# Altium schematic symbol library Memory_NVRAM.SchLib: 19 symbols
Pins are listed as number, name and electrical type; pins without a type are passive.

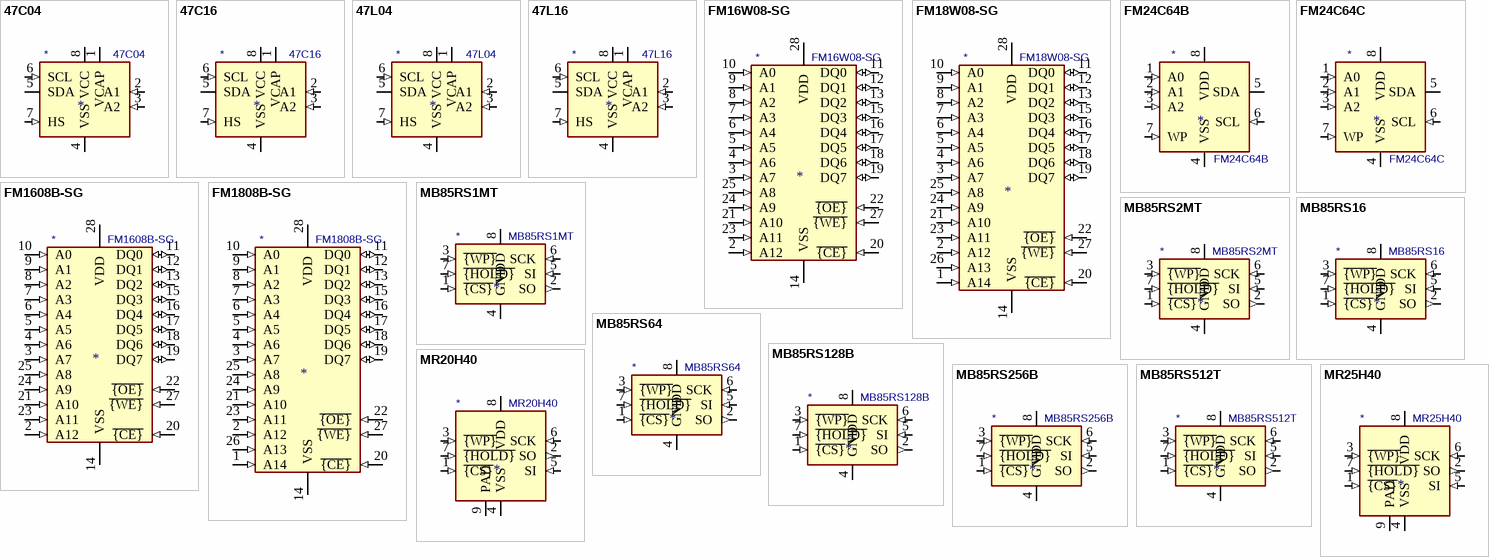
[diagram p0: symbols 47C04 to MR25H40]

## 47C04
designator *  value 47C04
ki_keywords: 4kb 5V I2C serial EERAM SRAM EEPROM; ki_description: 4kbit I2C serial EERAM, SRAM with EEPROM backup, 4.5-5.5V, DIP-8/SOIC-8/TSSOP-8; ki_fp_filters: DIP*W7.62mm* SOIC*3.9x4.9mm*P1.27mm* TSSOP*4.4x3mm*P0.65mm*; Supplier: http://ww1.microchip.com/downloads/en/DeviceDoc/20005371C.pdf
pins: 1 VCAP (power), 2 A1 (in), 3 A2 (in), 4 VSS (power), 5 SDA (io), 6 SCL (in), 7 HS (in), 8 VCC (power)

## 47C16
designator *  value 47C16
ki_keywords: 16kb 5V I2C serial EERAM SRAM EEPROM; ki_description: 16kbit I2C serial EERAM, SRAM with EEPROM backup, 4.5-5.5V, DIP-8/SOIC-8/TSSOP-8; ki_fp_filters: DIP*W7.62mm* SOIC*3.9x4.9mm*P1.27mm* TSSOP*4.4x3mm*P0.65mm*; Supplier: http://ww1.microchip.com/downloads/en/DeviceDoc/20005371C.pdf
pins: 1 VCAP (power), 2 A1 (in), 3 A2 (in), 4 VSS (power), 5 SDA (io), 6 SCL (in), 7 HS (in), 8 VCC (power)

## 47L04
designator *  value 47L04
ki_keywords: 4kb 3V I2C serial EERAM SRAM EEPROM; ki_description: 4kbit I2C serial EERAM, SRAM with EEPROM backup, 2.7-3.6V, DIP-8/SOIC-8/TSSOP-8; ki_fp_filters: DIP*W7.62mm* SOIC*3.9x4.9mm*P1.27mm* TSSOP*4.4x3mm*P0.65mm*; Supplier: http://ww1.microchip.com/downloads/en/DeviceDoc/20005371C.pdf
pins: 1 VCAP (power), 2 A1 (in), 3 A2 (in), 4 VSS (power), 5 SDA (io), 6 SCL (in), 7 HS (in), 8 VCC (power)

## 47L16
designator *  value 47L16
ki_keywords: 16kb 3V I2C serial EERAM SRAM EEPROM; ki_description: 16kbit I2C serial EERAM, SRAM with EEPROM backup, 2.7-3.6V, DIP-8/SOIC-8/TSSOP-8; ki_fp_filters: DIP*W7.62mm* SOIC*3.9x4.9mm*P1.27mm* TSSOP*4.4x3mm*P0.65mm*; Supplier: http://ww1.microchip.com/downloads/en/DeviceDoc/20005371C.pdf
pins: 1 VCAP (power), 2 A1 (in), 3 A2 (in), 4 VSS (power), 5 SDA (io), 6 SCL (in), 7 HS (in), 8 VCC (power)

## FM16W08-SG
designator *  value FM16W08-SG
ki_keywords: FRAM 5V Parallel; ki_description: 64Kb FRAM nonvolatile memory, SOIC-28; ki_fp_filters: SOIC?28*7.5x17.9mm*P1.27mm*; Footprint: Package_SO:SOIC-28W_7.5x17.9mm_P1.27mm; Supplier: http://www.cypress.com/file/41731/download
footprint SOIC-28W_7.5x17.9mm_P1.27mm
pins: 2 A12 (in), 3 A7 (in), 4 A6 (in), 5 A5 (in), 6 A4 (in), 7 A3 (in), 8 A2 (in), 9 A1 (in), 10 A0 (in), 11 DQ0 (io), 12 DQ1 (io), 13 DQ2 (io), 14 VSS (power), 15 DQ3 (io), 16 DQ4 (io), 17 DQ5 (io), 18 DQ6 (io), 19 DQ7 (io), 20 ~{{CE}} (in), 21 A10 (in), 22 ~{{OE}} (in), 23 A11 (in), 24 A9 (in), 25 A8 (in), 27 ~{{WE}} (in), 28 VDD (power)

## FM18W08-SG
designator *  value FM18W08-SG
ki_keywords: FRAM 5V Parallel; ki_description: 256k FRAM nonvolatile memory, SOIC-28; ki_fp_filters: SOIC*7.5x17.9mm*P1.27mm*; Footprint: Package_SO:SOIC-28W_7.5x17.9mm_P1.27mm; Supplier: http://www.cypress.com/file/136521/download
footprint SOIC-28W_7.5x17.9mm_P1.27mm
pins: 1 A14 (in), 2 A12 (in), 3 A7 (in), 4 A6 (in), 5 A5 (in), 6 A4 (in), 7 A3 (in), 8 A2 (in), 9 A1 (in), 10 A0 (in), 11 DQ0 (io), 12 DQ1 (io), 13 DQ2 (io), 14 VSS (power), 15 DQ3 (io), 16 DQ4 (io), 17 DQ5 (io), 18 DQ6 (io), 19 DQ7 (io), 20 ~{{CE}} (in), 21 A10 (in), 22 ~{{OE}} (in), 23 A11 (in), 24 A9 (in), 25 A8 (in), 26 A13 (in), 27 ~{{WE}} (in), 28 VDD (power)

## FM24C64B
designator *  value FM24C64B
ki_keywords: FRAM I2C Serial 5V FRAM NVRAM; ki_description: 64Kb serial FRAM nonvolatile Memory, SOIC-8; ki_fp_filters: SOIC*3.9x4.9mm*P1.27mm*; Footprint: Package_SO:SOIC-8_3.9x4.9mm_P1.27mm; Supplier: http://www.cypress.com/file/41651/download
footprint SOIC-8_3.9x4.9mm_P1.27mm
pins: 1 A0 (in), 2 A1 (in), 3 A2 (in), 4 VSS (power), 5 SDA (io), 6 SCL (in), 7 WP (in), 8 VDD (power)

## FM24C64C
designator *  value FM24C64C
ki_keywords: FRAM I2C Serial 5V FRAM NVRAM; ki_description: 64Kb serial FRAM nonvolatile Memory, SOIC-8; ki_fp_filters: SOIC*3.9x4.9mm*P1.27mm*; Footprint: Package_SO:SOIC-8_3.9x4.9mm_P1.27mm; Supplier: http://www.cypress.com/file/41651/download
footprint SOIC-8_3.9x4.9mm_P1.27mm
pins: 1 A0 (in), 2 A1 (in), 3 A2 (in), 4 VSS (power), 5 SDA (io), 6 SCL (in), 7 WP (in), 8 VDD (power)

## FM1608B-SG
designator *  value FM1608B-SG
ki_keywords: FRAM 5V Parallel; ki_description: 64Kb FRAM nonvolatile memory, SOIC-28; ki_fp_filters: SOIC?28*7.5x17.9mm*P1.27mm*; Footprint: Package_SO:SOIC-28W_7.5x17.9mm_P1.27mm; Supplier: http://www.cypress.com/file/41731/download
footprint SOIC-28W_7.5x17.9mm_P1.27mm
pins: 2 A12 (in), 3 A7 (in), 4 A6 (in), 5 A5 (in), 6 A4 (in), 7 A3 (in), 8 A2 (in), 9 A1 (in), 10 A0 (in), 11 DQ0 (io), 12 DQ1 (io), 13 DQ2 (io), 14 VSS (power), 15 DQ3 (io), 16 DQ4 (io), 17 DQ5 (io), 18 DQ6 (io), 19 DQ7 (io), 20 ~{{CE}} (in), 21 A10 (in), 22 ~{{OE}} (in), 23 A11 (in), 24 A9 (in), 25 A8 (in), 27 ~{{WE}} (in), 28 VDD (power)

## FM1808B-SG
designator *  value FM1808B-SG
ki_keywords: FRAM 5V Parallel; ki_description: 256k FRAM nonvolatile memory, SOIC-28; ki_fp_filters: SOIC*7.5x17.9mm*P1.27mm*; Footprint: Package_SO:SOIC-28W_7.5x17.9mm_P1.27mm; Supplier: http://www.cypress.com/file/136521/download
footprint SOIC-28W_7.5x17.9mm_P1.27mm
pins: 1 A14 (in), 2 A12 (in), 3 A7 (in), 4 A6 (in), 5 A5 (in), 6 A4 (in), 7 A3 (in), 8 A2 (in), 9 A1 (in), 10 A0 (in), 11 DQ0 (io), 12 DQ1 (io), 13 DQ2 (io), 14 VSS (power), 15 DQ3 (io), 16 DQ4 (io), 17 DQ5 (io), 18 DQ6 (io), 19 DQ7 (io), 20 ~{{CE}} (in), 21 A10 (in), 22 ~{{OE}} (in), 23 A11 (in), 24 A9 (in), 25 A8 (in), 26 A13 (in), 27 ~{{WE}} (in), 28 VDD (power)

## MB85RS1MT
designator *  value MB85RS1MT
ki_keywords: FRAM SPI 3.3V; ki_description: FRAM memory with SPI interface, SOIC-8 SON-8; ki_fp_filters: SOIC*3.9x5.05mm*P1.27mm* *SON*2x3mm*P0.50mm*; Supplier: http://www.fujitsu.com/downloads/MICRO/fsa/pdf/products/memory/fram/MB85RS16-DS501-00014-6v0-E.pdf
pins: 1 ~{{CS}} (in), 2 SO (out), 3 ~{{WP}} (in), 4 GND (power), 5 SI (in), 6 SCK (in), 7 ~{{HOLD}} (in), 8 VDD (power)

## MB85RS2MT
designator *  value MB85RS2MT
ki_keywords: FRAM SPI 3.3V; ki_description: FRAM memory with SPI interface, SOIC-8 SON-8; ki_fp_filters: SOIC*3.9x5.05mm*P1.27mm* *SON*2x3mm*P0.50mm*; Supplier: http://www.fujitsu.com/downloads/MICRO/fsa/pdf/products/memory/fram/MB85RS16-DS501-00014-6v0-E.pdf
pins: 1 ~{{CS}} (in), 2 SO (out), 3 ~{{WP}} (in), 4 GND (power), 5 SI (in), 6 SCK (in), 7 ~{{HOLD}} (in), 8 VDD (power)

## MB85RS16
designator *  value MB85RS16
ki_keywords: FRAM SPI 3.3V; ki_description: FRAM memory with SPI interface, SOIC-8 SON-8; ki_fp_filters: SOIC*3.9x5.05mm*P1.27mm* *SON*2x3mm*P0.50mm*; Supplier: http://www.fujitsu.com/downloads/MICRO/fsa/pdf/products/memory/fram/MB85RS16-DS501-00014-6v0-E.pdf
pins: 1 ~{{CS}} (in), 2 SO (out), 3 ~{{WP}} (in), 4 GND (power), 5 SI (in), 6 SCK (in), 7 ~{{HOLD}} (in), 8 VDD (power)

## MB85RS64
designator *  value MB85RS64
ki_keywords: FRAM SPI 3.3V; ki_description: FRAM memory with SPI interface, SOIC-8 SON-8; ki_fp_filters: SOIC*3.9x5.05mm*P1.27mm* *SON*2x3mm*P0.50mm*; Supplier: http://www.fujitsu.com/downloads/MICRO/fme/fram/datasheet-MB85RS64.pdf
pins: 1 ~{{CS}} (in), 2 SO (out), 3 ~{{WP}} (in), 4 GND (power), 5 SI (in), 6 SCK (in), 7 ~{{HOLD}} (in), 8 VDD (power)

## MB85RS128B
designator *  value MB85RS128B
ki_keywords: FRAM SPI 3.3V; ki_description: FRAM memory with SPI interface, SOIC-8 SON-8; ki_fp_filters: SOIC*3.9x5.05mm*P1.27mm* *SON*2x3mm*P0.50mm*; Supplier: http://www.fujitsu.com/downloads/MICRO/fsa/pdf/products/memory/fram/MB85RS16-DS501-00014-6v0-E.pdf
pins: 1 ~{{CS}} (in), 2 SO (out), 3 ~{{WP}} (in), 4 GND (power), 5 SI (in), 6 SCK (in), 7 ~{{HOLD}} (in), 8 VDD (power)

## MB85RS256B
designator *  value MB85RS256B
ki_keywords: FRAM SPI 3.3V; ki_description: FRAM memory with SPI interface, SOIC-8 SON-8; ki_fp_filters: SOIC*3.9x5.05mm*P1.27mm* *SON*2x3mm*P0.50mm*; Supplier: http://www.fujitsu.com/downloads/MICRO/fsa/pdf/products/memory/fram/MB85RS16-DS501-00014-6v0-E.pdf
pins: 1 ~{{CS}} (in), 2 SO (out), 3 ~{{WP}} (in), 4 GND (power), 5 SI (in), 6 SCK (in), 7 ~{{HOLD}} (in), 8 VDD (power)

## MB85RS512T
designator *  value MB85RS512T
ki_keywords: FRAM SPI 3.3V; ki_description: FRAM memory with SPI interface, SOIC-8 SON-8; ki_fp_filters: SOIC*3.9x5.05mm*P1.27mm* *SON*2x3mm*P0.50mm*; Supplier: http://www.fujitsu.com/downloads/MICRO/fsa/pdf/products/memory/fram/MB85RS16-DS501-00014-6v0-E.pdf
pins: 1 ~{{CS}} (in), 2 SO (out), 3 ~{{WP}} (in), 4 GND (power), 5 SI (in), 6 SCK (in), 7 ~{{HOLD}} (in), 8 VDD (power)

## MR20H40
designator *  value MR20H40
ki_keywords: MRAM SPI EEPROM 3.3V; ki_description: 4Mb MRAM memory with SPI interface, DFN-8; ki_fp_filters: DFN*6x5mm*P1.27mm*; Supplier: https://www.everspin.com/file/217/download
pins: 1 ~{{CS}} (in), 2 SO (out), 3 ~{{WP}} (in), 4 VSS (power), 5 SI (in), 6 SCK (in), 7 ~{{HOLD}} (in), 8 VDD (power), 9 PAD (power)

## MR25H40
designator *  value MR25H40
ki_keywords: MRAM SPI EEPROM 3.3V; ki_description: 4Mb MRAM memory with SPI interface, DFN-8; ki_fp_filters: DFN*6x5mm*P1.27mm*; Supplier: https://www.everspin.com/file/217/download
pins: 1 ~{{CS}} (in), 2 SO (out), 3 ~{{WP}} (in), 4 VSS (power), 5 SI (in), 6 SCK (in), 7 ~{{HOLD}} (in), 8 VDD (power), 9 PAD (power)